# Altium footprint library Semiconductors.PcbLib: 45 footprints (part 1 of 3)
Each footprint in its own frame and in the unit in brackets; x right, y up, seen from the top. Pads: shape width x height; smd on the part's side, far side on the other; paste and mask are expansions set on the pad; w line width, h text height; cw(c..) or ccw(c..) is an arc to the next point about the centre after c.
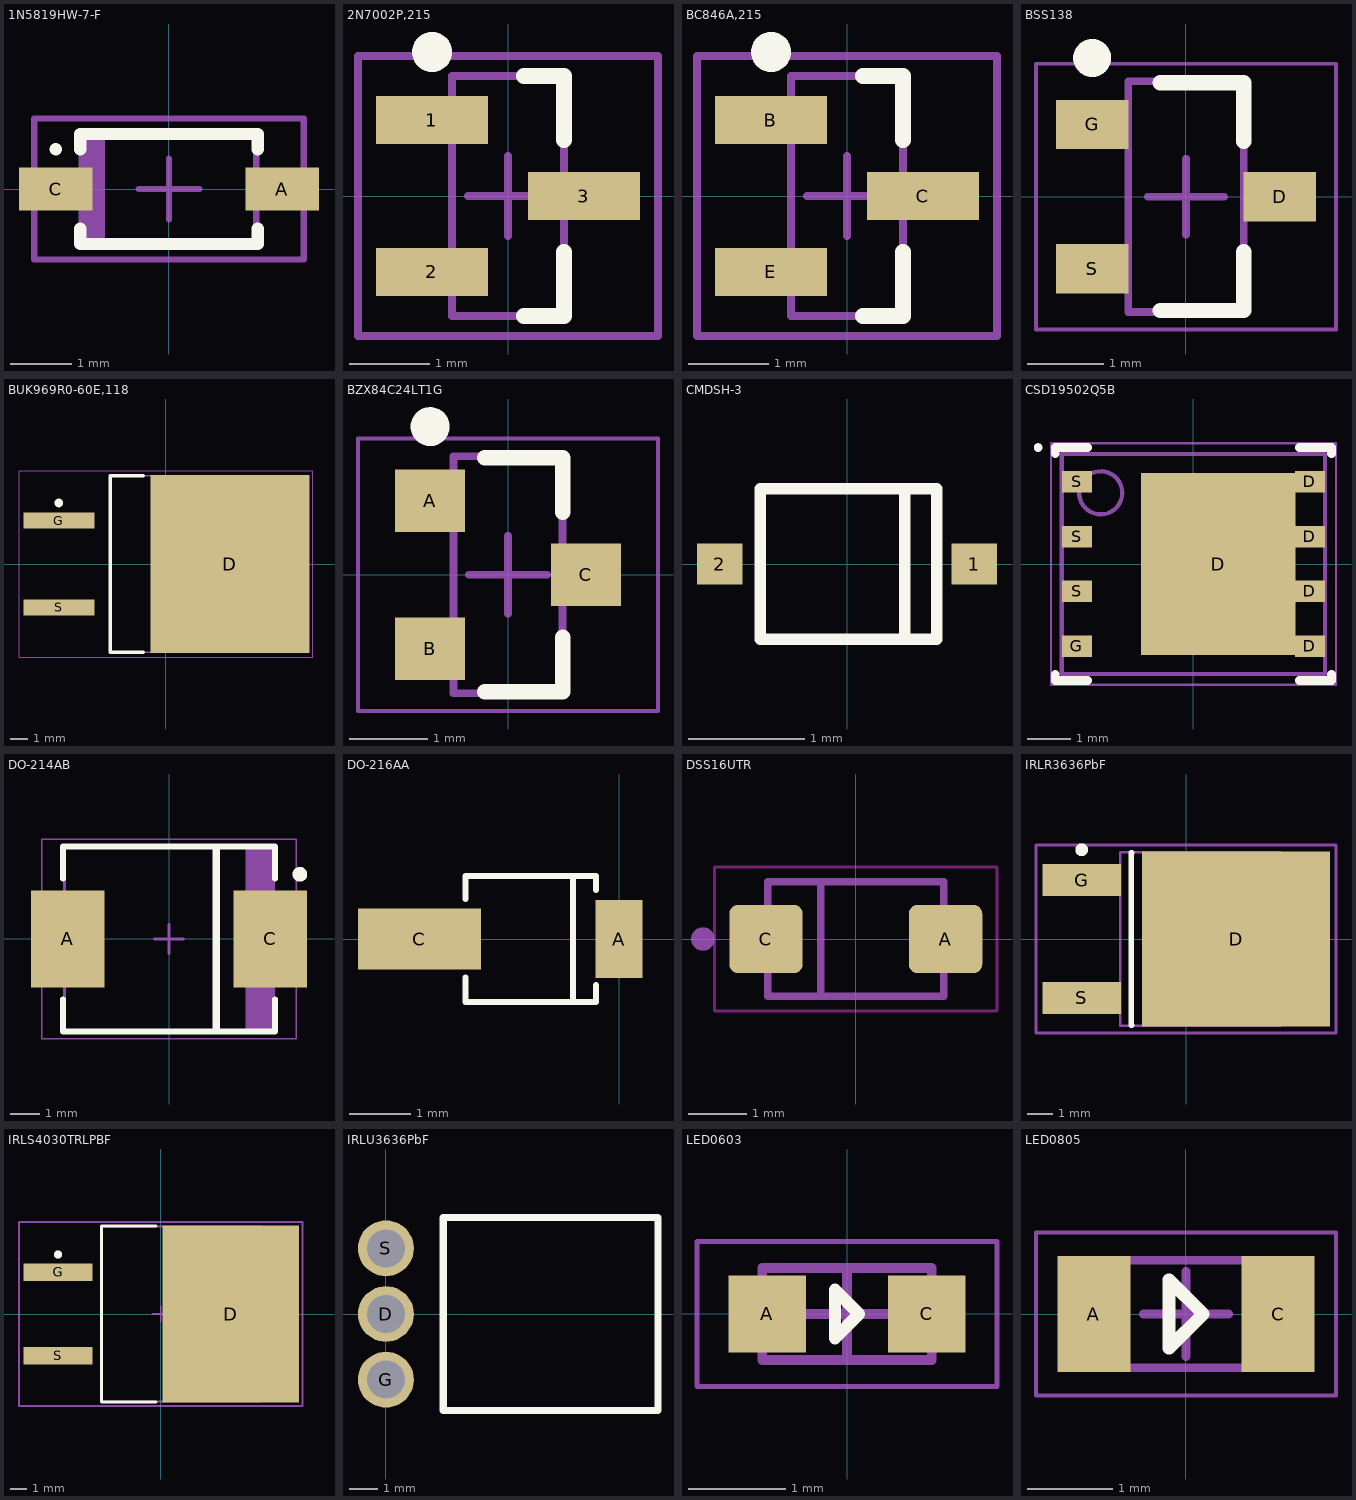
[diagram p0: the footprints below, top view; thin cyan lines are the x and y axes]

## 1N5819HW-7-F [mm] "DIODE SCHOTTKY 40V 1A SOD123"
height 1.35
pads (2):
  rect 1.2x0.7 smd: A(1.85,0) C(-1.85,0)
Top Overlay:
  circle w0.1: c-1.85,0.65 r0.05
  lines w0.2: -1.45,-0.65 -1.45,-0.9 1.45,-0.9 1.45,-0.65 ; -1.45,0.65 -1.45,0.9 1.45,0.9 1.45,0.65
Mechanical 13:
  rectangle: -1.425,-0.85 -1.042,0.85
  lines w0.1: -1.425,-0.85 -1.425,0.85 1.425,0.85 1.425,-0.85 -1.425,-0.85
Mechanical 15:
  lines w0.1: -0.5,0 0.5,0 ; 0,-0.5 0,0.5 ; -2.2,-1.15 -2.2,1.15 2.2,1.15 2.2,-1.15 -2.2,-1.15
3D body: height 1.35, standoff 0, extent -1.425,-0.85 1.425,0.85

## 2N7002P,215 [mm] "MOSFET N-CH SGL 60V SOT-23"
height 1.1
pads (3):
  rect 1.4x0.6 smd: 1(-0.95,0.95) 2(-0.95,-0.95) 3(0.95,0)
Top Overlay:
  circle w0.25: c-0.95,1.8 r0.125
  lines w0.2: 0.2,-1.5 0.7,-1.5 0.7,-0.7 ; 0.2,1.5 0.7,1.5 0.7,0.7
Mechanical 13:
  lines w0.1: -0.7,-1.5 0.7,-1.5 0.7,1.5 -0.7,1.5 -0.7,-1.5
Mechanical 15:
  lines w0.1: -0.5,0 0.5,0 ; 0,-0.5 0,0.5 ; -1.875,-1.75 1.875,-1.75 1.875,1.75 -1.875,1.75 -1.875,-1.75
3D body: height 1.1, standoff 0.1, extent -0.7,-1.5 0.7,1.5

## BC846A,215 [mm] "TRANSISTOR NPN 100MA 65V SOT23"
height 1.1
pads (3):
  rect 1.4x0.6 smd: B(-0.95,0.95) C(0.95,0) E(-0.95,-0.95)
Top Overlay:
  circle w0.25: c-0.95,1.8 r0.125
  lines w0.2: 0.2,-1.5 0.7,-1.5 0.7,-0.7 ; 0.2,1.5 0.7,1.5 0.7,0.7
Mechanical 13:
  lines w0.1: -0.7,-1.5 0.7,-1.5 0.7,1.5 -0.7,1.5 -0.7,-1.5
Mechanical 15:
  lines w0.1: -0.5,0 0.5,0 ; 0,-0.5 0,0.5 ; -1.875,-1.75 1.875,-1.75 1.875,1.75 -1.875,1.75 -1.875,-1.75
3D body: height 1.1, standoff 0, extent -0.7,-1.5 0.7,1.5

## BSS138 [mm] "MOSFET N-CH 50V 220MA SOT-23"
height 1.12
pads (3):
  rect 0.95x0.65 smd: D(1.235,0) G(-1.235,0.95) S(-1.235,-0.95)
Top Overlay:
  circle w0.25: c-1.235,1.825 r0.125
  lines w0.2: -0.34,-1.5 0.76,-1.5 0.76,-0.725 ; -0.34,1.5 0.76,1.5 0.76,0.725
Mechanical 13:
  lines w0.1: -0.76,-1.52 0.76,-1.52 0.76,1.52 -0.76,1.52 -0.76,-1.52
Mechanical 15:
  lines w0.05: -1.975,-1.75 1.975,-1.75 1.975,1.75 -1.975,1.75 -1.975,-1.75
  lines w0.1: -0.5,0 0.5,0 ; 0,-0.5 0,0.5
3D body: height 1.12, standoff 0, extent -0.76,-1.52 0.76,1.52

## BUK969R0-60E,118 [mm] "MOSFET N-CH 60V 75A D2PAK"
height 4.5
pads (3):
  rect 9.3x10.4 smd: D(3.75,0)
  rect 4.15x0.95 smd: G(-6.25,2.54) S(-6.25,-2.54)
Top Overlay:
  circle w0.25: c-6.25,3.565 r0.125
  lines w0.2: -1.3,-5.15 -3.25,-5.15 -3.25,5.15 -1.3,5.15
Mechanical 13:
  lines w0.1: -3.25,-5.15 6.55,-5.15 6.55,5.15 -3.25,5.15 -3.25,-5.15
Mechanical 15:
  lines w0.05: -8.575,-5.45 8.575,-5.45 8.575,5.45 -8.575,5.45 -8.575,-5.45
  lines w0.1: -0.5,0 0.5,0 ; 0,-0.5 0,0.5
3D body: height 4.5, standoff 0, extent -3.25,-5.15 6.55,5.15

## BZX84C24LT1G [mm] "SOT23, 3-Leads, Body 2.92x2.37mm, Pitch 0.95mm, IPC Medium Density"
height 1.11
pads (3):
  rect 0.9x0.8 smd: A(-1,0.95) B(-1,-0.95) C(1,0)
Top Overlay:
  circle w0.25: c-1,1.9 r0.125
  lines w0.2: -0.3,-1.5 0.7,-1.5 0.7,-0.8 ; -0.3,1.5 0.7,1.5 0.7,0.8
Mechanical 13:
  lines w0.1: -0.7,-1.52 0.7,-1.52 0.7,1.52 -0.7,1.52 -0.7,-1.52
Mechanical 15:
  lines w0.05: -1.925,-1.75 1.925,-1.75 1.925,1.75 -1.925,1.75 -1.925,-1.75
  lines w0.1: -0.5,0 0.5,0 ; 0,-0.5 0,0.5
3D body: height 1.11, standoff 0.01, extent -0.7,-1.52 0.7,1.52

## CMDSH-3 [mil] "Schottky"
pads (2):
  rect 15.5x14 smd: 1(43.25,0) 2(-43.25,0)
Top Overlay:
  lines w3.94: 19.68,-25.59 19.68,25.59 ; -29.53,-25.59 -29.53,25.59 30.51,25.59 30.51,-25.59 -29.53,-25.59
3D body: height 39.37, standoff 3.94, extent -31.5,-27.56 32.48,27.56

## CSD19502Q5B [mm] "PSON, 8-Leads, Body 5.00x6.00mm, Pitch 1.27mm, Thermal Pad 4.22x3.58mm, IPC Medium Density"
height 1.05
pads (9):
  rect 3.58x4.22 smd mask+0: D(0.575,0)
  rect 0.7x0.5 smd mask+0: D(2.7,-1.905) D(2.7,-0.635) D(2.7,0.635) D(2.7,1.905) G(-2.7,-1.905) S(-2.7,-0.635) S(-2.7,0.635) S(-2.7,1.905)
Top Overlay:
  circle w0.1: c-3.6,2.7 r0.05
  lines w0.2: -3.2,-2.555 -3.2,-2.7 -2.45,-2.7 ; -3.2,2.555 -3.2,2.7 -2.45,2.7 ; 2.45,-2.7 3.2,-2.7 3.2,-2.555 ; 2.45,2.7 3.2,2.7 3.2,2.555
Mechanical 13:
  circle w0.1: c-2.15,1.65 r0.5
  lines w0.1: -3.05,-2.55 -3.05,2.55 3.05,2.55 3.05,-2.55 -3.05,-2.55
Mechanical 15:
  lines w0.05: -3.305,-2.8 -3.305,2.8 3.305,2.8 3.305,-2.8 -3.305,-2.8
  lines w0.1: -0.5,0 0.5,0 ; 0,-0.5 0,0.5
3D body: height 1.05, standoff 0.15, extent -3.05,-2.55 3.05,2.55

## DO-214AB [mm] "Molded Diode, 2-Leads, Body 6.85x5.90mm, IPC Medium Density"
height 2.5
pads (2):
  rect 2.5x3.3 smd: A(-3.45,0) C(3.45,0)
Top Overlay:
  circle w0.25: c4.45,2.2 r0.125
  lines w0.2: -3.6,-2.05 -3.6,-3.15 3.6,-3.15 3.6,-2.05 ; -3.6,2.05 -3.6,3.15 3.6,3.15 3.6,2.05
  lines w0.254: 1.6,-3.1 1.6,3.1
Mechanical 13:
  rectangle: 2.599,-3.11 3.555,3.11
  lines w0.1: -3.555,-3.11 3.555,-3.11 3.555,3.11 -3.555,3.11 -3.555,-3.11
Mechanical 15:
  lines w0.05: -4.325,-3.4 4.325,-3.4 4.325,3.4 -4.325,3.4 -4.325,-3.4
  lines w0.1: -0.5,0 0.5,0 ; 0,-0.5 0,0.5
3D body: height 2.5, standoff 0, extent -3.555,-3.11 3.555,3.11

## DO-216AA [mm] "UPS120"
pads (2):
  rect 0.76x1.27 smd: A(0,0)
  rect 2x1 smd: C(-3.25,0)
Top Overlay:
  lines w0.1: -2.5,-0.625 -2.5,-1.025 -0.375,-1.025 -0.375,-0.75 ; -2.5,0.65 -2.5,1.025 -0.375,1.025 -0.375,0.8 ; -0.75,-1.025 -0.75,1.025
3D body: height 1, standoff 0.1, extent -2.487,-0.987 -0.462,1.038

## DSS16UTR [mm] "Diode Schottky 60V 1A"
pads (2):
  rrect25% 1.25x1.16 smd: A(1.53,0) C(-1.53,0)
Top Layer keep-out:
  lines w0.05: -2.405,-1.225 2.405,-1.225 2.405,1.225 -2.405,1.225 -2.405,-1.225
Mechanical 3:
  circle w0.2: c-2.605,0 r0.1
  lines w0.127: -0.6,-0.975 -0.6,0.975 ; -0.6,-0.975 -1.5,-0.975 -1.5,0.975 -0.6,0.975 ; -0.6,-0.975 1.5,-0.975 1.5,0.975 -0.6,0.975
Mechanical 7:
  circle w0.2: c-2.605,0 r0.1
  lines w0.127: -1.38,-0.975 1.38,-0.975 ; -1.38,0.975 1.38,0.975

## IRLR3636PbF [mm] "D-PAK, 3-Pads, Body 6.2x6.7mm (max), IPC Medium Density"
height 2.39
pads (3):
  rect 7.3x6.8 smd: D(1.95,0)
  rect 3.05x1.25 smd: G(-4.05,2.29) S(-4.05,-2.29)
Top Overlay:
  circle w0.25: c-4.05,3.465 r0.125
  lines w0.2: -2.1,-3.35 -2.125,-3.35 -2.125,3.35 -2.1,3.35
Mechanical 13:
  lines w0.1: -2.55,-3.375 3.67,-3.375 3.67,3.375 -2.55,3.375 -2.55,-3.375
Mechanical 15:
  lines w0.1: -0.5,0 0.5,0 ; 0,-0.5 0,0.5 ; -5.825,-3.65 5.825,-3.65 5.825,3.65 -5.825,3.65 -5.825,-3.65
3D body: height 2.39, standoff 0, extent -2.55,-3.375 3.67,3.375

## IRLS4030TRLPBF [mm] "MOSFET N-CH 100V 180A D2PAK"
height 4.83
pads (3):
  rect 8.3x10.75 smd: D(4.25,0)
  rect 4.2x1.05 smd: G(-6.25,2.54) S(-6.25,-2.54)
Top Overlay:
  circle w0.25: c-6.25,3.615 r0.125
  lines w0.2: -0.3,-5.35 -3.6,-5.35 -3.6,5.35 -0.3,5.35
Mechanical 13:
  lines w0.1: -3.6,-5.325 6.05,-5.325 6.05,5.325 -3.6,5.325 -3.6,-5.325
Mechanical 15:
  lines w0.1: -0.5,0 0.5,0 ; 0,-0.5 0,0.5 ; -8.625,-5.6 8.625,-5.6 8.625,5.6 -8.625,5.6 -8.625,-5.6
3D body: height 4.83, standoff 0, extent -3.6,-5.325 6.05,5.325

## IRLU3636PbF [mm]
height 2.39
pads (3):
  round 1.95 hole 1.33: D(0,0) G(0,-2.29) S(0,2.29)
Top Overlay:
  lines w0.254: 2,-3.365 9.49,-3.365 9.49,3.365 2,3.365 2,-3.365
3D body: height 2.39, standoff 0, extent 2.032,-3.302 9.398,3.302

## LED0603 [mm] "Chip LED, 2-Leads, Body 1.60x0.80mm, IPC Medium Density"
height 0.8
pads (2):
  rect 0.8x0.8 smd: A(-0.825,0) C(0.825,0)
Top Overlay:
  lines w0.127: -0.125,-0.25 0.125,0 -0.125,0.25 -0.125,-0.25
Mechanical 13:
  lines w0.1: -0.875,-0.475 -0.875,0.475 0.875,0.475 0.875,-0.475 -0.875,-0.475
Mechanical 15:
  lines w0.05: -1.55,-0.75 -1.55,0.75 1.55,0.75 1.55,-0.75 -1.55,-0.75
  lines w0.1: -0.475,0 0.475,0 ; 0,-0.475 0,0.475
3D body: height 0.75, standoff 0, extent -0.525,-0.475 0.525,0.475
3D body: height 0.8, standoff 0, extent -0.875,-0.475 -0.525,0.475
3D body: height 0.8, standoff 0, extent 0.525,-0.475 0.875,0.475

## LED0805 [mm] "Chip LED, 2-Leads, Body 2.00x1.25mm, IPC Medium Density"
height 0.75
pads (2):
  rect 0.85x1.35 smd: A(-1.075,0) C(1.075,0)
Top Overlay:
  lines w0.15: -0.2,-0.4 0.2,0 -0.2,0.4 -0.2,-0.4
Mechanical 13:
  lines w0.1: -1,-0.625 1,-0.625 1,0.625 -1,0.625 -1,-0.625
Mechanical 15:
  lines w0.05: -1.75,-0.95 1.75,-0.95 1.75,0.95 -1.75,0.95 -1.75,-0.95
  lines w0.1: -0.5,0 0.5,0 ; 0,-0.5 0,0.5
3D body: height 0.75, standoff 0, extent 0.6,-0.625 1,0.625
3D body: height 0.75, standoff 0, extent -1,-0.625 -0.6,0.625
3D body: height 0.75, standoff 0, extent -0.6,-0.625 0.6,0.625